# Altium footprint library NNLightSwitcher.PcbLib: 50 footprints (part 3 of 4)
Each footprint in its own frame and in the unit in brackets; x right, y up, seen from the top. Pads: shape width x height; smd on the part's side, far side on the other; paste and mask are expansions set on the pad; w line width, h text height; cw(c..) or ccw(c..) is an arc to the next point about the centre after c.
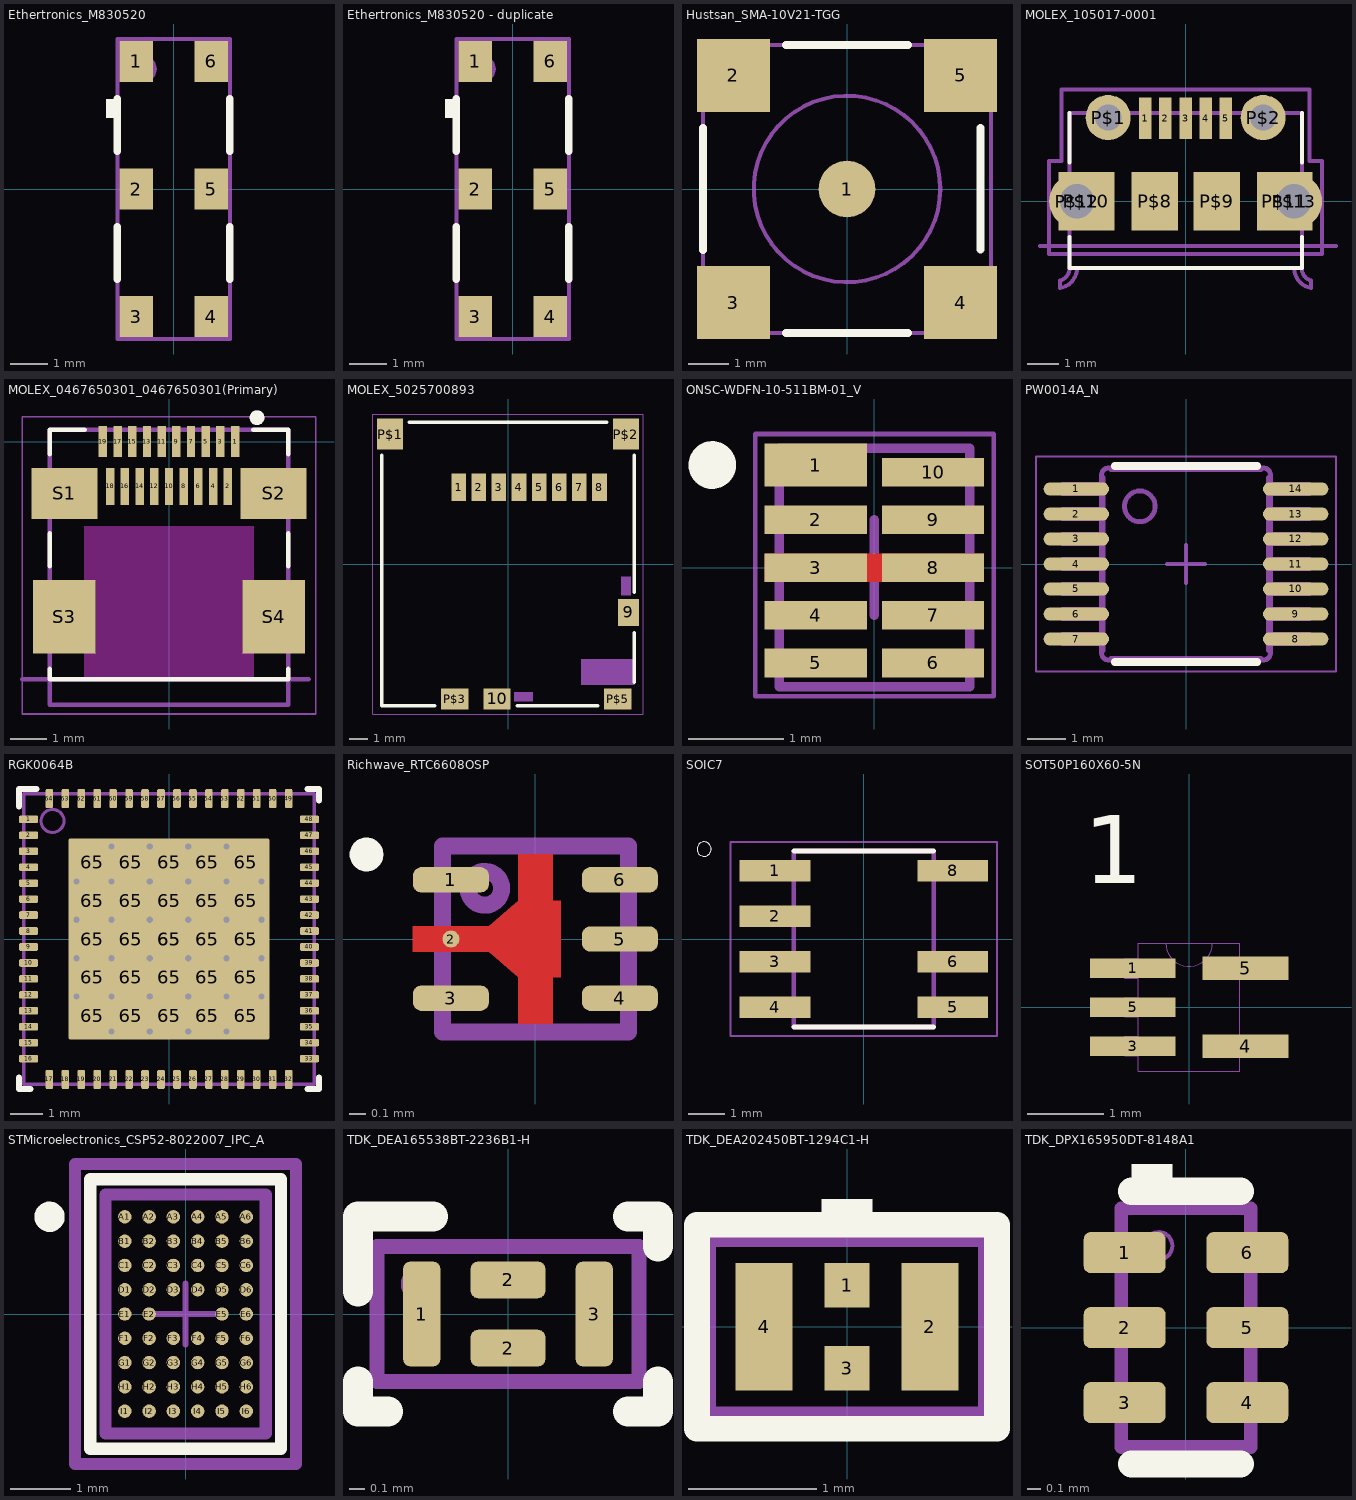
[diagram p2: the footprints below, top view; thin cyan lines are the x and y axes]

## Ethertronics_M830520 [mm] "SMD, 6-Leads, Body 8x3mm"
height 1.33
pads (6):
  rect 0.9x1.1 smd: 1(-1,3.4) 2(-1,0) 3(-1,-3.4) 4(1,-3.4) 5(1,0) 6(1,3.4)
Top Overlay:
  rectangle: -1.8,1.9 -1.5,2.4
  lines w0.2: -1.5,-2.4 -1.5,-1 ; -1.5,1 -1.5,2.4 ; 1.5,-2.4 1.5,-1 ; 1.5,1 1.5,2.4
Mechanical 5:
  circle w0.1: c-0.8,3.2 r0.3
  lines w0.1: -1.5,-4 -1.5,4 1.5,4 1.5,-4 -1.5,-4
  text ".Designator" at 0.538,-0.908 h1
3D body: height 1.33, standoff 0, extent -1.5,-4 1.5,4
3D body: height 1.33, standoff 1.33, extent -1.099,2.901 -0.501,3.499

## Ethertronics_M830520 - duplicate [mm] "SMD, 6-Leads, Body 8x3mm"
height 1.33
pads (6):
  rect 0.9x1.1 smd: 1(-1,3.4) 2(-1,0) 3(-1,-3.4) 4(1,-3.4) 5(1,0) 6(1,3.4)
Top Overlay:
  rectangle: -1.8,1.9 -1.5,2.4
  lines w0.2: -1.5,-2.4 -1.5,-1 ; -1.5,1 -1.5,2.4 ; 1.5,-2.4 1.5,-1 ; 1.5,1 1.5,2.4
Mechanical 5:
  circle w0.1: c-0.8,3.2 r0.3
  lines w0.1: -1.5,-4 -1.5,4 1.5,4 1.5,-4 -1.5,-4
  text ".Designator" at 0.538,-0.908 h1
3D body: height 1.33, standoff 0, extent -1.5,-4 1.5,4
3D body: height 1.33, standoff 1.33, extent -1.099,2.901 -0.501,3.499

## Hustsan_SMA-10V21-TGG [mm] "SMD, 4-Leads, Body 7.1x7.1mm"
height 10.7
pads (5):
  round 1.4 smd: 1(0,0)
  rect 1.8x1.8 smd paste-0.076 mask-0.076: 2(-2.8,2.8) 3(-2.8,-2.8)
  rect 1.8x1.8 smd: 4(2.8,-2.8) 5(2.8,2.8)
Top Overlay:
  lines w0.2: -3.55,-1.5 -3.55,1.5 ; -1.5,-3.55 1.5,-3.55 ; -1.5,3.55 1.5,3.55 ; 3.297,-1.496 3.297,1.504
Mechanical 5:
  circle w0.1: c0,0 r0.2
  circle w0.1: c0,0 r2.3
  lines w0.1: -3.55,-2 -2,-2 -2,-3.55 ; -3.55,2 -2,2 -2,3.55 ; 2,-3.55 2,-2 3.55,-2 ; 2,3.55 2,2 3.55,2 ; -3.55,-3.55 -3.55,3.55 3.55,3.55 3.55,-3.55 -3.55,-3.55
  text ".Designator" at -0.467,2.535 h0.6
3D body: height 10.72, standoff 10.7, extent -0.199,-0.199 0.199,0.199
3D body: height 10.71, standoff 10.7, extent -2.299,-2.299 2.299,2.299
3D body: height 9.8, standoff 4.5, extent -3.162,-3.2 3.162,3.137
3D body: height 1, standoff 0, extent -0.57,-0.574 0.575,0.574
3D body: height 2.8, standoff 1, extent -3.55,-3.55 3.55,3.55
3D body: height 2.8, standoff 0, extent -3.55,2 -2,3.55
3D body: height 2.8, standoff 0, extent 2,2 3.55,3.55
3D body: height 2.8, standoff 0, extent 2,-3.55 3.55,-2
3D body: height 2.8, standoff 0, extent -3.55,-3.55 -2,-2
3D body: height 10.7, standoff 2.8, extent -2.679,-2.695 2.7,2.695

## MOLEX_105017-0001 [mm]
pads (13):
  rect 0.4x1.35 smd: 1(-1.3,2.675) 2(-0.65,2.675) 3(0,2.675) 4(0.65,2.675) 5(1.3,2.675)
  round 1.45 hole 0.85: P$1(-2.5,2.7) P$2(2.5,2.7)
  rect 1.5x1.9 smd: P$8(-1,0) P$9(1,0)
  rect 1.8x1.9 smd: P$10(-3.2,0) P$11(3.2,0)
  round 1.8 hole 1.1: P$12(-3.5,0) P$13(3.5,0)
Top Overlay:
  lines w0.127: -3.75,-1.15 -3.75,-2.15 3.75,-2.15 3.75,-1.15 ; -3.75,1.25 -3.75,2.85 ; 3.75,1.25 3.75,2.85
Mechanical 1:
  lines w0: -3.8,-0.35 ccw(c-3.5,-0.35) -3.2,-0.35 -3.2,0.35 ccw(c-3.5,0.35) -3.8,0.35 -3.8,-0.35 ; 3.2,-0.35 ccw(c3.5,-0.35) 3.8,-0.35 3.8,0.35 ccw(c3.5,0.35) 3.2,0.35 3.2,-0.35
  lines w0.127: -4.7,-1.45 4.85,-1.45 ; -4.05,-2.8 -4.05,-2.55 ; -4.049,-2.55 ccw(c-4.128,-2.179) -3.75,-2.153 ; -4.047,-2.8 ccw(c-4.162,-2.147) -3.5,-2.147 ; -3.75,-2.15 -3.75,2.85 3.75,2.85 3.75,-2.15 ; 3.5,-2.147 ccw(c4.162,-2.147) 4.047,-2.8 ; 3.75,-2.153 ccw(c4.128,-2.179) 4.049,-2.55 ; 4.05,-2.8 4.05,-2.55 ; -4.4,-1.7 4.4,-1.7 4.4,1.3 4,1.3 4,3.6 -4,3.6 -4,1.3 -4.4,1.3 -4.4,-1.7
3D body "1050170001.stp": height 2.68, standoff -0.63, extent -4.1,-2.55 4.1,2.85

## MOLEX_0467650301_0467650301(Primary) [mm]
pads (23):
  rect 0.23x0.85 smd: 1(1.8,0) 3(1.4,0) 5(1,0) 7(0.6,0) 9(0.2,0) 11(-0.2,0) 13(-0.6,0) 15(-1,0) 17(-1.4,0) 19(-1.8,0)
  rect 0.23x1 smd: 2(1.6,-1.225) 4(1.2,-1.225) 6(0.8,-1.225) 8(0.4,-1.225) 10(0,-1.225) 12(-0.4,-1.225) 14(-0.8,-1.225) 16(-1.2,-1.225) 18(-1.6,-1.225)
  rect 1.8x1.38 smd: S1(-2.85,-1.415) S2(2.85,-1.415)
  rect 1.7x2 smd: S3(-2.85,-4.775) S4(2.85,-4.775)
Top Overlay:
  circle w0.2: c2.4,0.65 r0.1
  lines w0.127: -3.25,-6.2 -3.25,-6.475 3.25,-6.475 3.25,-6.2 ; -3.25,-3.4 -3.25,-2.5 ; -3.25,-0.35 -3.25,0.325 -2.3,0.325 ; 2.3,0.325 3.25,0.325 3.25,-0.35 ; 3.25,-3.4 3.25,-2.5
Keep-Out Layer:
  region: -2.315,-5.775 2.315,-5.775 2.315,-6.475 -2.315,-6.475
  region: -2,-2.315 2,-2.315 2,-5.775 -2,-5.775
  region: -2.315,-2.315 -2,-2.315 -2,-3.775 -2.315,-3.775
  region: 2,-2.315 2.315,-2.315 2.315,-3.775 2,-3.775
  region: -2.315,-2.315 -2,-2.315 -2,-3.775 -2.315,-3.775
  region: -2,-2.315 2,-2.315 2,-5.775 -2,-5.775
  region: 2,-2.315 2.315,-2.315 2.315,-3.775 2,-3.775
  region: -2.315,-5.775 2.315,-5.775 2.315,-6.475 -2.315,-6.475
  region: -2.315,-5.775 2.315,-5.775 2.315,-6.475 -2.315,-6.475
  region: -2,-2.315 2,-2.315 2,-5.775 -2,-5.775
  region: -2.315,-2.315 -2,-2.315 -2,-3.775 -2.315,-3.775
  region: 2,-2.315 2.315,-2.315 2.315,-3.775 2,-3.775
  region: -2.315,-2.315 -2,-2.315 -2,-3.775 -2.315,-3.775
  region: -2,-2.315 2,-2.315 2,-5.775 -2,-5.775
  region: 2,-2.315 2.315,-2.315 2.315,-3.775 2,-3.775
  region: -2.315,-5.775 2.315,-5.775 2.315,-6.475 -2.315,-6.475
  region: -2.315,-5.775 2.315,-5.775 2.315,-6.475 -2.315,-6.475
  region: -2,-2.315 2,-2.315 2,-5.775 -2,-5.775
  region: -2.315,-2.315 -2,-2.315 -2,-3.775 -2.315,-3.775
  region: 2,-2.315 2.315,-2.315 2.315,-3.775 2,-3.775
  region: -2.315,-2.315 -2,-2.315 -2,-3.775 -2.315,-3.775
  region: -2,-2.315 2,-2.315 2,-5.775 -2,-5.775
  region: 2,-2.315 2.315,-2.315 2.315,-3.775 2,-3.775
  region: -2.315,-5.775 2.315,-5.775 2.315,-6.475 -2.315,-6.475
Mechanical 4:
  circle w0.2: c2.4,0.65 r0.1
  circle w0.2: c2.4,0.65 r0.1
  lines w0.127: -3.25,-7.175 3.25,-7.175 ; -3.25,-7.175 -3.25,0.325 ; -3.25,-7.175 3.25,-7.175 ; -3.25,-7.175 -3.25,0.325 ; -3.25,0.325 3.25,0.325 ; -3.25,0.325 3.25,0.325 ; 3.25,-7.175 3.25,0.325 ; 3.25,-7.175 3.25,0.325 ; -4,-6.475 3.8,-6.475 -4,-6.475
  text "PCB EDGE" at 4,-6.65 h1.88
  text "PCB EDGE" at 4,-6.65 h1.88
Mechanical 16:
  lines w0.05: -4,-7.425 4,-7.425 4,0.675 -4,0.675 -4,-7.425
3D body "User Library-MicroHDMI.STEP": height 2.98, standoff 0.01, extent -3.25,-7.175 3.25,0.325

## MOLEX_5025700893 [mm]
pads (14):
  rect 0.8x1.5 smd: 1(-2.7,4.2) 2(-1.6,4.2) 3(-0.5,4.2) 4(0.6,4.2) 5(1.7,4.2) 6(2.8,4.2) 7(3.9,4.2) 8(5,4.2)
  rect 1.15x1.5 smd: 9(6.575,-2.65)
  rect 1.5x1.15 smd: 10(-0.6,-7.375) P$3(-2.9,-7.375) P$5(6,-7.375)
  rect 1.4x1.7 smd: P$1(-6.45,7.1) P$2(6.45,7.1)
Top Overlay:
  lines w0.2: -6.9,5.95 -6.9,-7.75 -4,-7.75 ; -5.4,7.75 5.4,7.75 ; 0.5,-7.75 4.9,-7.75 ; 6.9,-6.45 6.9,-3.75 ; 6.9,-1.55 6.9,5.95
Mechanical 1:
  region: 0.35,-7 1.35,-7 1.35,-7.507 0.35,-7.507
  region: 0.351,-7 1.35,-7 1.35,-7.512 0.351,-7.512
  region: 4.002,-5.2 6.9,-5.2 6.9,-6.603 4.002,-6.603
  region: 6.201,-0.7 6.7,-0.7 6.7,-1.7 6.201,-1.7
  region: 6.208,-0.7 6.7,-0.7 6.7,-1.702 6.208,-1.702
  region: 4.005,-5.2 6.9,-5.2 6.9,-6.608 4.005,-6.608
  lines w0.05: -7.4,-8.2 7.4,-8.2 7.4,8.2 -7.4,8.2 -7.4,-8.2
3D body "User Library-microsd card.step": height 1.52, standoff 0.52, extent -4.442,-7.58 6.57,7.42
3D body "5025700893.stp": height 1.9, standoff 0.1, extent -6.826,-7.552 6.974,7.948

## ONSC-WDFN-10-511BM-01_V [mm] "SON, 10-Leads, Body 2.5x2mm, Pitch 0.5mm"
height 0.8
pads (10):
  rect 1.07x0.45 smd: 1(-0.615,1.075)
  rect 1.07x0.3 smd: 2(-0.615,0.5) 3(-0.615,0) 4(-0.615,-0.5) 5(-0.615,-1) 6(0.615,-1) 7(0.615,-0.5) 8(0.615,0) 9(0.615,0.5) 10(0.615,1)
Top Layer:
  rectangle: -1.15,-0.15 1.15,0.15
Top Overlay:
  circle w0.25: c-1.7,1.075 r0.125
Mechanical 13:
  lines w0.1: -1,-1.25 -1,1.25 1,1.25 1,-1.25 -1,-1.25
Mechanical 15:
  lines w0.05: -1.25,-1.35 -1.25,1.4 1.25,1.4 1.25,-1.35 -1.25,-1.35
  lines w0.1: -0.5,0 0.5,0 ; 0,-0.5 0,0.5
3D body: height 0.8, standoff 0, extent -1,-1.25 1,1.25

## PW0014A_N [mm] "TSOP, 14-Leads, Body 5x4.4mm, Pitch 0.65mm, IPC Medium Density"
height 1.2
pads (14):
  oval 1.7x0.35 smd: 1(-2.85,1.95) 2(-2.85,1.3) 3(-2.85,0.65) 4(-2.85,0) 5(-2.85,-0.65) 6(-2.85,-1.3) 7(-2.85,-1.95) 8(2.85,-1.95) 9(2.85,-1.3) 10(2.85,-0.65) 11(2.85,0) 12(2.85,0.65) 13(2.85,1.3) 14(2.85,1.95)
Top Overlay:
  lines w0.2: -1.85,-2.55 1.85,-2.55 ; -1.85,2.55 1.85,2.55
Mechanical 5:
  drawing of 182 lines, arcs and shapes, not listed
  text ".Designator" at -0.275,1.9 h1.02
Mechanical 15:
  lines w0.05: -3.9,-2.8 3.9,-2.8 3.9,2.8 -3.9,2.8 -3.9,-2.8
  lines w0.1: -0.5,0 0.5,0 ; 0,-0.5 0,0.5
3D body "PW0014A.stp": height 1, standoff 0, extent -3.21,-2.5 3.21,2.5

## RGK0064B [mm] "VQFN-64"
height 1
pads (90):
  rrect42% 0.6x0.24 smd: 1(-4.4,3.75) 2(-4.4,3.25) 3(-4.4,2.75) 4(-4.4,2.25) 5(-4.4,1.75) 6(-4.4,1.25) 7(-4.4,0.75) 8(-4.4,0.25) 9(-4.4,-0.25) 10(-4.4,-0.75) 11(-4.4,-1.25) 12(-4.4,-1.75) 13(-4.4,-2.25) 14(-4.4,-2.75) 15(-4.4,-3.25) 16(-4.4,-3.75) 33(4.4,-3.75) 34(4.4,-3.25) 35(4.4,-2.75) 36(4.4,-2.25) 37(4.4,-1.75) 38(4.4,-1.25) 39(4.4,-0.75) 40(4.4,-0.25) 41(4.4,0.25) 42(4.4,0.75) 43(4.4,1.25) 44(4.4,1.75) 45(4.4,2.25) 46(4.4,2.75) 47(4.4,3.25) 48(4.4,3.75)
  rrect42% 0.24x0.6 smd: 17(-3.75,-4.4) 18(-3.25,-4.4) 19(-2.75,-4.4) 20(-2.25,-4.4) 21(-1.75,-4.4) 22(-1.25,-4.4) 23(-0.75,-4.4) 24(-0.25,-4.4) 25(0.25,-4.4) 26(0.75,-4.4) 27(1.25,-4.4) 28(1.75,-4.4) 29(2.25,-4.4) 30(2.75,-4.4) 31(3.25,-4.4) 32(3.75,-4.4) 49(3.75,4.4) 50(3.25,4.4) 51(2.75,4.4) 52(2.25,4.4) 53(1.75,4.4) 54(1.25,4.4) 55(0.75,4.4) 56(0.25,4.4) 57(-0.25,4.4) 58(-0.75,4.4) 59(-1.25,4.4) 60(-1.75,4.4) 61(-2.25,4.4) 62(-2.75,4.4) 63(-3.25,4.4) 64(-3.75,4.4)
  rrect50% 1x1 on Top Paste: 65(-2.4,-2.4) 65(-2.4,-1.2) 65(-2.4,0) 65(-2.4,1.2) 65(-2.4,2.4) 65(-1.2,-2.4) 65(-1.2,-1.2) 65(-1.2,0) 65(-1.2,1.2) 65(-1.2,2.4) 65(0,-2.4) 65(0,-1.2) 65(0,0) 65(0,1.2) 65(0,2.4) 65(1.2,-2.4) 65(1.2,-1.2) 65(1.2,0) 65(1.2,1.2) 65(1.2,2.4) 65(2.4,-2.4) 65(2.4,-1.2) 65(2.4,0) 65(2.4,1.2) 65(2.4,2.4)
  rrect2% 6.3x6.3 smd paste-4: 65(0,0)
via -0.6,0.6 diameter 0.5 hole 0.2
via 0.6,0.6 diameter 0.5 hole 0.2
via 1.8,0.6 diameter 0.5 hole 0.2
via 1.8,1.8 diameter 0.5 hole 0.2
via 0.6,1.8 diameter 0.5 hole 0.2
via -0.6,1.8 diameter 0.5 hole 0.2
via -1.8,1.8 diameter 0.5 hole 0.2
via -1.8,0.6 diameter 0.5 hole 0.2
via 1.8,-0.6 diameter 0.5 hole 0.2
via 0.6,-0.6 diameter 0.5 hole 0.2
via -0.6,-0.6 diameter 0.5 hole 0.2
via -1.8,-0.6 diameter 0.5 hole 0.2
via -1.8,-1.8 diameter 0.5 hole 0.2
via -0.6,-1.8 diameter 0.5 hole 0.2
via 0.6,-1.8 diameter 0.5 hole 0.2
via 1.8,-1.8 diameter 0.5 hole 0.2
via 2.9,-1.8 diameter 0.5 hole 0.2
via 2.9,-0.6 diameter 0.5 hole 0.2
via 2.9,1.8 diameter 0.5 hole 0.2
via 2.9,0.6 diameter 0.5 hole 0.2
via -0.6,2.9 diameter 0.5 hole 0.2
via -1.8,2.9 diameter 0.5 hole 0.2
via 0.6,2.9 diameter 0.5 hole 0.2
via 1.8,2.9 diameter 0.5 hole 0.2
via -2.9,-0.6 diameter 0.5 hole 0.2
via -2.9,-1.8 diameter 0.5 hole 0.2
via -2.9,0.6 diameter 0.5 hole 0.2
via -2.9,1.8 diameter 0.5 hole 0.2
via 0.6,-2.9 diameter 0.5 hole 0.2
via 1.8,-2.9 diameter 0.5 hole 0.2
via -0.6,-2.9 diameter 0.5 hole 0.2
via -1.8,-2.9 diameter 0.5 hole 0.2
Top Overlay:
  lines w0.2: -4.7,-4.35 -4.7,-4.7 -4.35,-4.7 ; -4.7,4.15 -4.7,4.7 -4.15,4.7 ; 4.35,-4.7 4.7,-4.7 4.7,-4.35 ; 4.35,4.7 4.7,4.7 4.7,4.35
Mechanical 5:
  circle w0.1: c-3.65,3.7 r0.361
  lines w0.1: -4.55,-4.55 -4.55,4.55 4.55,4.55 4.55,-4.55 -4.55,-4.55
  text ".Designator" at -1.65,-0.5 h1.02
3D body "RGK0064B.stp": height 1, standoff 0, extent -4.5,-4.5 4.5,4.5

## Richwave_RTC6608OSP [mm] "SMD, 6-Leads, Body 1x1mm"
height 0.4
pads (6):
  rrect67% 0.45x0.15 smd: 1(-0.5,0.35) 3(-0.5,-0.35) 4(0.5,-0.35) 5(0.5,0) 6(0.5,0.35)
  rrect100% 0.1x0.1 smd: 2(-0.5,0)
Top Layer:
  region: -0.725,-0.076 -0.726,-0.076 -0.726,-0.075 -0.726,0.075 -0.726,0.076 -0.725,0.076 -0.275,0.076 -0.101,0.225 -0.101,0.5 -0.101,0.501 -0.1,0.501 0.1,0.501 0.101,0.5 0.101,0.226 0.15,0.226 0.151,0.225 0.151,-0.225 0.151,-0.226 0.15,-0.226 0.101,-0.226 0.101,-0.5 0.1,-0.501 -0.1,-0.501 -0.101,-0.501 -0.101,-0.5 -0.101,-0.225 -0.275,-0.076
Top Overlay:
  circle w0.1: c-1,0.5 r0.05
Mechanical 5:
  circle w0.1: c-0.3,0.3 r0.1
  lines w0.1: -0.55,-0.55 -0.55,0.55 0.55,0.55 0.55,-0.55 -0.55,-0.55
  text ".Designator" at 0.205,-0.251 h0.45
3D body: height 0.4, standoff 0, extent -0.55,-0.55 0.55,0.55
3D body: height 0.41, standoff 0.4, extent -0.399,0.201 -0.201,0.399

## SOIC7 [mm]
pads (7):
  rect 1.97x0.6 smd: 1(-2.475,1.905) 2(-2.475,0.635) 3(-2.475,-0.635) 4(-2.475,-1.905) 5(2.475,-1.905) 6(2.475,-0.635) 8(2.475,1.905)
Top Overlay:
  circle w0: c-4.445,2.505 r0.2
  lines w0.127: -1.95,-2.45 1.95,-2.45 ; -1.95,2.45 1.95,2.45
Mechanical 4:
  circle w0: c-4.445,2.505 r0.2
  circle w0: c-4.445,2.505 r0.2
  lines w0.127: -1.95,-2.45 -1.95,2.45 ; -1.95,-2.45 1.95,-2.45 ; -1.95,-2.45 -1.95,2.45 ; -1.95,-2.45 1.95,-2.45 ; -1.95,2.45 1.95,2.45 ; -1.95,2.45 1.95,2.45 ; 1.95,-2.45 1.95,2.45 ; 1.95,-2.45 1.95,2.45
Mechanical 16:
  lines w0.05: -3.71,-2.7 -3.71,2.7 3.71,2.7 3.71,-2.7 -3.71,-2.7

## SOT50P160X60-5N [mil]
pads (5):
  rect 44x10 smd: 1(-29,20) 3(-29,-20) 5(-29,0)
  rect 44x12 smd: 4(29,-20) 5(29,20)
Top Overlay:
  text "1" at -54.13,52.13 h60
Mechanical 1:
  lines w0: -26,-25 -26,-33 26,-33 26,-25 ; -26,-25 -26,-15 ; -26,-25 -33,-25 -33,-15 -26,-15 ; -26,-15 -26,-5 ; -26,-5 -26,5 ; -26,-5 -33,-5 -33,5 -26,5 ; -26,5 -26,15 ; -26,15 -26,25 ; -26,15 -33,15 -33,25 -26,25 ; -26,25 -26,33 -12,33 ; -12,33 ccw(c0,33) 12,33 ; -12,33 12,33 ; 12,33 26,33 26,25 ; 26,-25 26,-15 ; 26,-25 33,-25 33,-15 26,-15 ; 26,-15 26,15 ; 26,15 26,25 ; 26,15 33,15 33,25 26,25
  text "*" at -61,15.16 h73.82
3D body "User Library-SOT50P160X60-5.step": height 23.62, standoff 0, extent -31.49,-31.32 31.5,31.31

## STMicroelectronics_CSP52-8022007_IPC_A [mm]
pads (52):
  round 0.221 smd paste+0 mask+0: A1(-1,1.6) A2(-0.6,1.6) A3(-0.2,1.6) A4(0.2,1.6) A5(0.6,1.6) A6(1,1.6) B1(-1,1.2) B2(-0.6,1.2) B3(-0.2,1.2) B4(0.2,1.2) B5(0.6,1.2) B6(1,1.2) C1(-1,0.8) C2(-0.6,0.8) C3(-0.2,0.8) C4(0.2,0.8) C5(0.6,0.8) C6(1,0.8) D1(-1,0.4) D2(-0.6,0.4) D3(-0.2,0.4) D4(0.2,0.4) D5(0.6,0.4) D6(1,0.4) E1(-1,0) E2(-0.6,0) E5(0.6,0) E6(1,0) F1(-1,-0.4) F2(-0.6,-0.4) F3(-0.2,-0.4) F4(0.2,-0.4) F5(0.6,-0.4) F6(1,-0.4) G1(-1,-0.8) G2(-0.6,-0.8) G3(-0.2,-0.8) G4(0.2,-0.8) G5(0.6,-0.8) G6(1,-0.8) H1(-1,-1.2) H2(-0.6,-1.2) H3(-0.2,-1.2) H4(0.2,-1.2) H5(0.6,-1.2) H6(1,-1.2) I1(-1,-1.6) I2(-0.6,-1.6) I3(-0.2,-1.6) I4(0.2,-1.6) I5(0.6,-1.6) I6(1,-1.6)
Top Overlay:
  circle w0.25: c-2.24,1.6 r0.125
  lines w0.2: -1.57,-2.22 -1.57,2.22 1.57,2.22 1.57,-2.22 -1.57,-2.22
Mechanical 10:
  lines w0.2: -1.82,-2.47 -1.82,2.47 1.82,2.47 1.82,-2.47 -1.82,-2.47
  text ".Designator" at 0,0 h1
Mechanical 12:
  lines w0.2: -1.32,-1.97 -1.32,1.97 1.32,1.97 1.32,-1.97 -1.32,-1.97
Mechanical 15:
  lines w0.1: -0.5,0 0.5,0 ; 0,-0.5 0,0.5
  lines w0.2: -1.82,-2.47 -1.82,2.47 1.82,2.47 1.82,-2.47 -1.82,-2.47
3D body "IC_STMicroelectronics_STWLC33JR_eec.STEP": height 0.25, standoff 0, extent -1.82,-2.47 1.82,2.47

## TDK_DEA165538BT-2236B1-H [mm] "SMD, 3-Leads, Body 1.6x0.8mm"
height 0.65
pads (4):
  rrect40% 0.25x0.7 smd: 1(-0.575,0) 3(0.575,0)
  rrect41% 0.5x0.245 smd: 2(0,-0.228) 2(0,0.228)
Top Overlay:
  lines w0.2: -1,-0.45 -1,-0.65 -0.8,-0.65 ; -1,0.15 -1,0.65 -0.5,0.65 ; 0.8,-0.65 1,-0.65 1,-0.45 ; 0.8,0.65 1,0.65 1,0.45
Mechanical 5:
  circle w0.03: c-0.6,0.2 r0.1
  lines w0.1: -0.875,-0.45 -0.875,0.45 0.875,0.45 0.875,-0.45 -0.875,-0.45
  text ".Designator" at 0.422,0.122 h0.5
3D body: height 0.65, standoff 0, extent -0.875,-0.45 0.875,0.45
3D body: height 0.65, standoff 0.65, extent -0.699,0.101 -0.501,0.299

## TDK_DEA202450BT-1294C1-H [mm] "SMD, 4-Leads, Body 2x1.25mm"
height 0.8
pads (4):
  rect 0.35x0.35 smd: 1(0,0.325) 3(0,-0.325)
  rect 0.45x1 smd: 2(0.65,0) 4(-0.65,0)
Top Overlay:
  rectangle: -0.2,0.8 0.2,1
  lines w0.2: -1.175,-0.8 -1.175,0.8 1.175,0.8 1.175,-0.8 -1.175,-0.8
Mechanical 5:
  rectangle: -0.2,0.675 0.2,0.9
  lines w0.1: -1.075,-0.675 1.075,-0.675 1.075,0.675 -1.075,0.675 -1.075,-0.675
  text ".Designator" at -0.8,-0.2 h0.5
3D body: height 0.7, standoff 0, extent -1.075,-0.675 1.075,0.675
3D body: height 0.8, standoff 0.7, extent -1.075,-0.675 1.075,0.675
3D body: height 0.8, standoff 0.7, extent -0.8,-0.4 -0.2,0.4

## TDK_DPX165950DT-8148A1 [mm] "SMD, 6-Leads, Body 1.6x0.8mm"
height 0.7
pads (6):
  rrect33% 0.6x0.3 smd mask+0: 1(-0.45,0.55) 2(-0.45,0) 3(-0.45,-0.55) 4(0.45,-0.55) 5(0.45,0) 6(0.45,0.55)
Top Overlay:
  rectangle: -0.4,1 -0.1,1.2
  lines w0.2: -0.4,-1 0.4,-1 ; -0.4,1 0.4,1
Mechanical 5:
  circle w0.03: c-0.2,0.6 r0.1
  lines w0.1: -0.475,-0.875 -0.475,0.875 0.475,0.875 0.475,-0.875 -0.475,-0.875
  text ".Designator" at 0.08,-0.174 h0.3
3D body: height 0.7, standoff 0, extent -0.475,-0.875 0.475,0.875
3D body: height 0.7, standoff 0.7, extent -0.299,0.501 -0.101,0.699